# EAGLE library part EXP1.10-A (library usb-fpga-1)
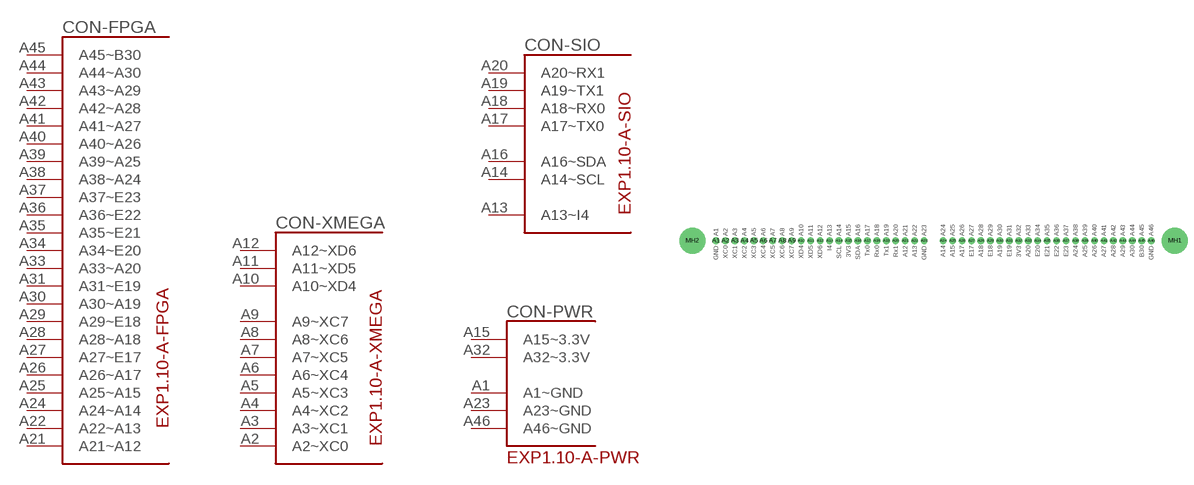
[diagram p5: symbol with the pads of EXP1.10-A; footprint EXP1.10-A]

Designator prefix CON; gates -PWR=EXP1.10-A-PWR -XMEGA=EXP1.10-A-XMEGA -FPGA=EXP1.10-A-FPGA -SIO=EXP1.10-A-SIO

## EXP1.10-A  [EXP1.10-A]
A1  -PWR:A1~GND
A2  -XMEGA:A2~XC0
A3  -XMEGA:A3~XC1
A4  -XMEGA:A4~XC2
A5  -XMEGA:A5~XC3
A6  -XMEGA:A6~XC4
A7  -XMEGA:A7~XC5
A8  -XMEGA:A8~XC6
A9  -XMEGA:A9~XC7
A10  -XMEGA:A10~XD4
A11  -XMEGA:A11~XD5
A12  -XMEGA:A12~XD6
A13  -SIO:A13~I4
A14  -SIO:A14~SCL
A15  -PWR:A15~3.3V
A16  -SIO:A16~SDA
A17  -SIO:A17~TX0
A18  -SIO:A18~RX0
A19  -SIO:A19~TX1
A20  -SIO:A20~RX1
A21  -FPGA:A21~A12
A22  -FPGA:A22~A13
A23  -PWR:A23~GND
A24  -FPGA:A24~A14
A25  -FPGA:A25~A15
A26  -FPGA:A26~A17
A27  -FPGA:A27~E17
A28  -FPGA:A28~A18
A29  -FPGA:A29~E18
A30  -FPGA:A30~A19
A31  -FPGA:A31~E19
A32  -PWR:A32~3.3V
A33  -FPGA:A33~A20
A34  -FPGA:A34~E20
A35  -FPGA:A35~E21
A36  -FPGA:A36~E22
A37  -FPGA:A37~E23
A38  -FPGA:A38~A24
A39  -FPGA:A39~A25
A40  -FPGA:A40~A26
A41  -FPGA:A41~A27
A42  -FPGA:A42~A28
A43  -FPGA:A43~A29
A44  -FPGA:A44~A30
A45  -FPGA:A45~B30
A46  -PWR:A46~GND

## Footprint EXP1.10-A (pad centres in mm)
drill 1.2 round: A1 0,0; A2 2.54,0; A3 5.08,0; A4 7.62,0; A5 10.16,0; A6 12.7,0; A7 15.24,0; A8 17.78,0; A9 20.32,0; A10 22.86,0; A11 25.4,0; A12 27.94,0; A13 30.48,0; A14 33.02,0; A15 35.56,0; A16 38.1,0; A17 40.64,0; A18 43.18,0; A19 45.72,0; A20 48.26,0; A21 50.8,0; A22 53.34,0; A23 55.88,0; A24 60.96,0; A25 63.5,0; A26 66.04,0; A27 68.58,0; A28 71.12,0; A29 73.66,0; A30 76.2,0; A31 78.74,0; A32 81.28,0; A33 83.82,0; A34 86.36,0; A35 88.9,0; A36 91.44,0; A37 93.98,0; A38 96.52,0; A39 99.06,0; A40 101.6,0; A41 104.14,0; A42 106.68,0; A43 109.22,0; A44 111.76,0; A45 114.3,0; A46 116.84,0
drill 3.2 pad 7 round: MH1 123.19,0; MH2 -6.35,0